# Altium footprint library MSMD300_3A .PcbLib: 1 footprints
Each footprint in its own frame and in the unit in brackets; x right, y up, seen from the top. Pads: shape width x height; smd on the part's side, far side on the other; paste and mask are expansions set on the pad; w line width, h text height; cw(c..) or ccw(c..) is an arc to the next point about the centre after c.
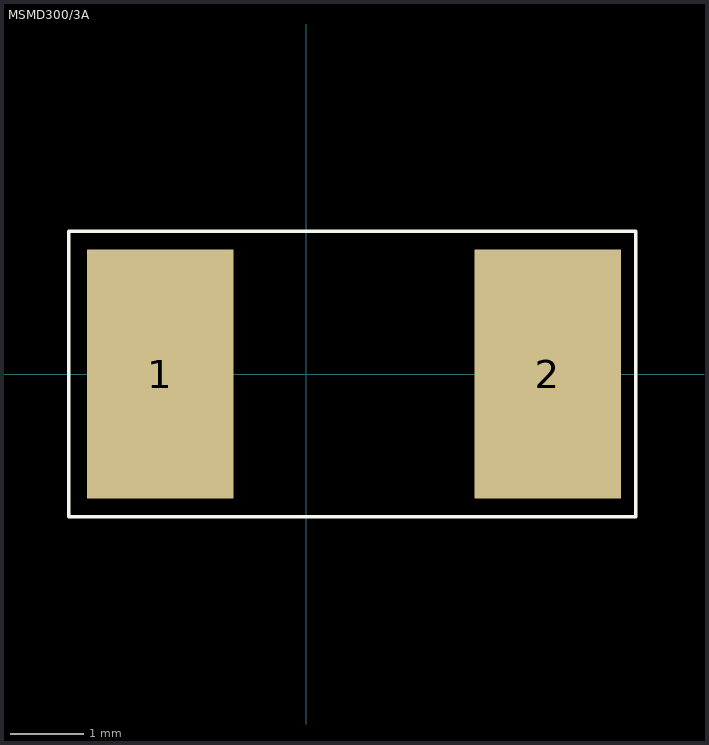
[diagram p0: the footprint, top view; thin cyan lines are the x and y axes]

## MSMD300/3A [mm]
pads (2):
  rect 2x3.4 smd: 1(-2,0) 2(3.3,0)
Top Overlay:
  lines w0.05: -3.25,-1.95 4.5,-1.95 4.5,1.95 -3.25,1.95 -3.25,-1.95